# EAGLE library part 621X1621021 (library Board-to-Board (rev18a))
WR-PHD 1.27mm Dual SMT Pin Header H=3.80 mm, 16 Pins=>Code : Con_BTB_PHD_1.27_2_621x1621021(Packaging:x = 0: Tube x = 3: Tape & Reel with Cap) <http://katalog.we-online.de/media/thumbs2/eican/thb_Con_BTB_PHD_1.27_2_6210xx21021_pf2.jpg> 6210xx21021 Details see: http://katalog.we-online.de/en/em/621_0xx_210_21 6213xx21021 Details see: http://katalog.we-online.de/en/em/PHD_1_27_SMT_DUAL_PIN_HEADER_REEL_6213XX21021 2014 (C) Würth Elektronik
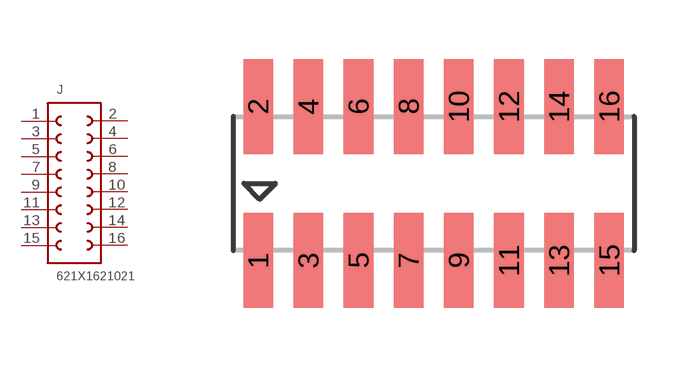
[diagram p280: symbol with the pads of 621X1621021; footprint 621X1621021]

Designator prefix J

## 621X1621021  [621X1621021]
1  1  pas
2  16  pas
3  2  pas
4  15  pas
5  3  pas
6  14  pas
7  4  pas
8  13  pas
9  5  pas
10  12  pas
11  6  pas
12  11  pas
13  7  pas
14  10  pas
15  8  pas
16  9  pas

## Footprint 621X1621021 (pad centres in mm)
WR-PHD 1.27mm Dual SMT Pin Header H=3.80 mm, 16 Pins
smd 0.75 x 2.4: 1 -4.445,-1.95; 2 -4.445,1.95; 3 -3.175,-1.95; 4 -3.175,1.95; 5 -1.905,-1.95; 6 -1.905,1.95; 7 -0.635,-1.95; 8 -0.635,1.95; 9 0.635,-1.95; 10 0.635,1.95; 11 1.905,-1.95; 12 1.905,1.95; 13 3.175,-1.95; 14 3.175,1.95; 15 4.445,-1.95; 16 4.445,1.95